# Altium footprint library Pcb_ATMega328p.PcbLib: 1 footprints
Each footprint in its own frame and in the unit in brackets; x right, y up, seen from the top. Pads: shape width x height; smd on the part's side, far side on the other; paste and mask are expansions set on the pad; w line width, h text height; cw(c..) or ccw(c..) is an arc to the next point about the centre after c.
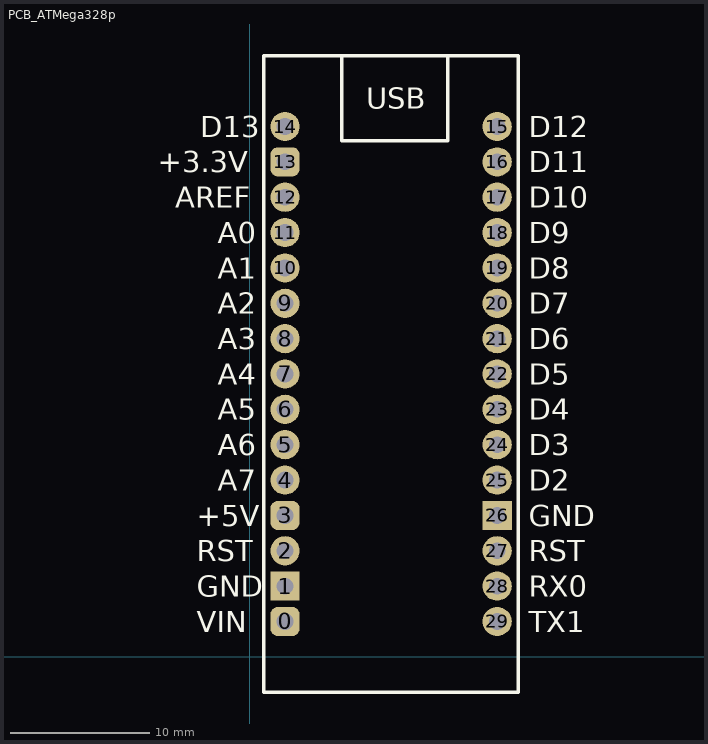
[diagram p0: the footprint, top view; thin cyan lines are the x and y axes]

## PCB_ATMega328p [mm] "Arduino Nano"
pads (30):
  rrect50% 2.1x2.1 hole 1.2: 0(2.54,2.54) 3(2.54,10.16) 13(2.54,35.56)
  rect 2.1x2.1 hole 1.2: 1(2.54,5.08) 26(17.78,10.16)
  round 2.1 hole 1.2: 2(2.54,7.62) 4(2.54,12.7) 5(2.54,15.24) 6(2.54,17.78) 7(2.54,20.32) 8(2.54,22.86) 9(2.54,25.4) 10(2.54,27.94) 11(2.54,30.48) 12(2.54,33.02) 14(2.54,38.1) 15(17.78,38.1) 16(17.78,35.56) 17(17.78,33.02) 18(17.78,30.48) 19(17.78,27.94) 20(17.78,25.4) 21(17.78,22.86) 22(17.78,20.32) 23(17.78,17.78) 24(17.78,15.24) 25(17.78,12.7) 27(17.78,7.62) 28(17.78,5.08) 29(17.78,2.54)
Top Overlay:
  lines w0.254: 1.016,-2.54 19.304,-2.54 19.304,43.18 1.016,43.18 1.016,-2.54 ; 6.604,37.084 14.224,37.084 14.224,43.18 6.604,43.18 6.604,37.084
  text "D13" at -3.556,37.338 h1.52
  text "+3.3V" at -6.604,34.798 h1.52
  text "AREF" at -5.334,32.258 h1.52
  text "A0" at -2.286,29.718 h1.52
  text "A1" at -2.286,27.178 h1.52
  text "A2" at -2.286,24.638 h1.52
  text "A3" at -2.286,22.098 h1.52
  text "A4" at -2.286,19.558 h1.52
  text "A5" at -2.286,17.018 h1.52
  text "A6" at -2.286,14.478 h1.52
  text "A7" at -2.286,11.938 h1.52
  text "+5V" at -3.81,9.398 h1.52
  text "RST" at -3.81,6.858 h1.52
  text "GND" at -3.81,4.318 h1.52
  text "VIN" at -3.81,1.778 h1.52
  text "D12" at 20.066,37.338 h1.52
  text "D11" at 20.066,34.798 h1.52
  text "D10" at 20.066,32.258 h1.52
  text "D9" at 20.066,29.718 h1.52
  text "D8" at 20.066,27.178 h1.52
  text "D7" at 20.066,24.638 h1.52
  text "D6" at 20.066,22.098 h1.52
  text "D5" at 20.066,19.558 h1.52
  text "D4" at 20.066,17.018 h1.52
  text "D3" at 20.066,14.478 h1.52
  text "D2" at 20.066,11.938 h1.52
  text "GND" at 20.066,9.398 h1.52
  text "RST" at 20.066,6.858 h1.52
  text "RX0" at 20.066,4.318 h1.52
  text "TX1" at 20.066,1.778 h1.52
  text "USB" at 8.382,39.37 h1.52